# Altium integrated library Analog Devices Data Converters Analog-to-Digital Converters.IntLib: 2400 symbols (part 255 of 338)
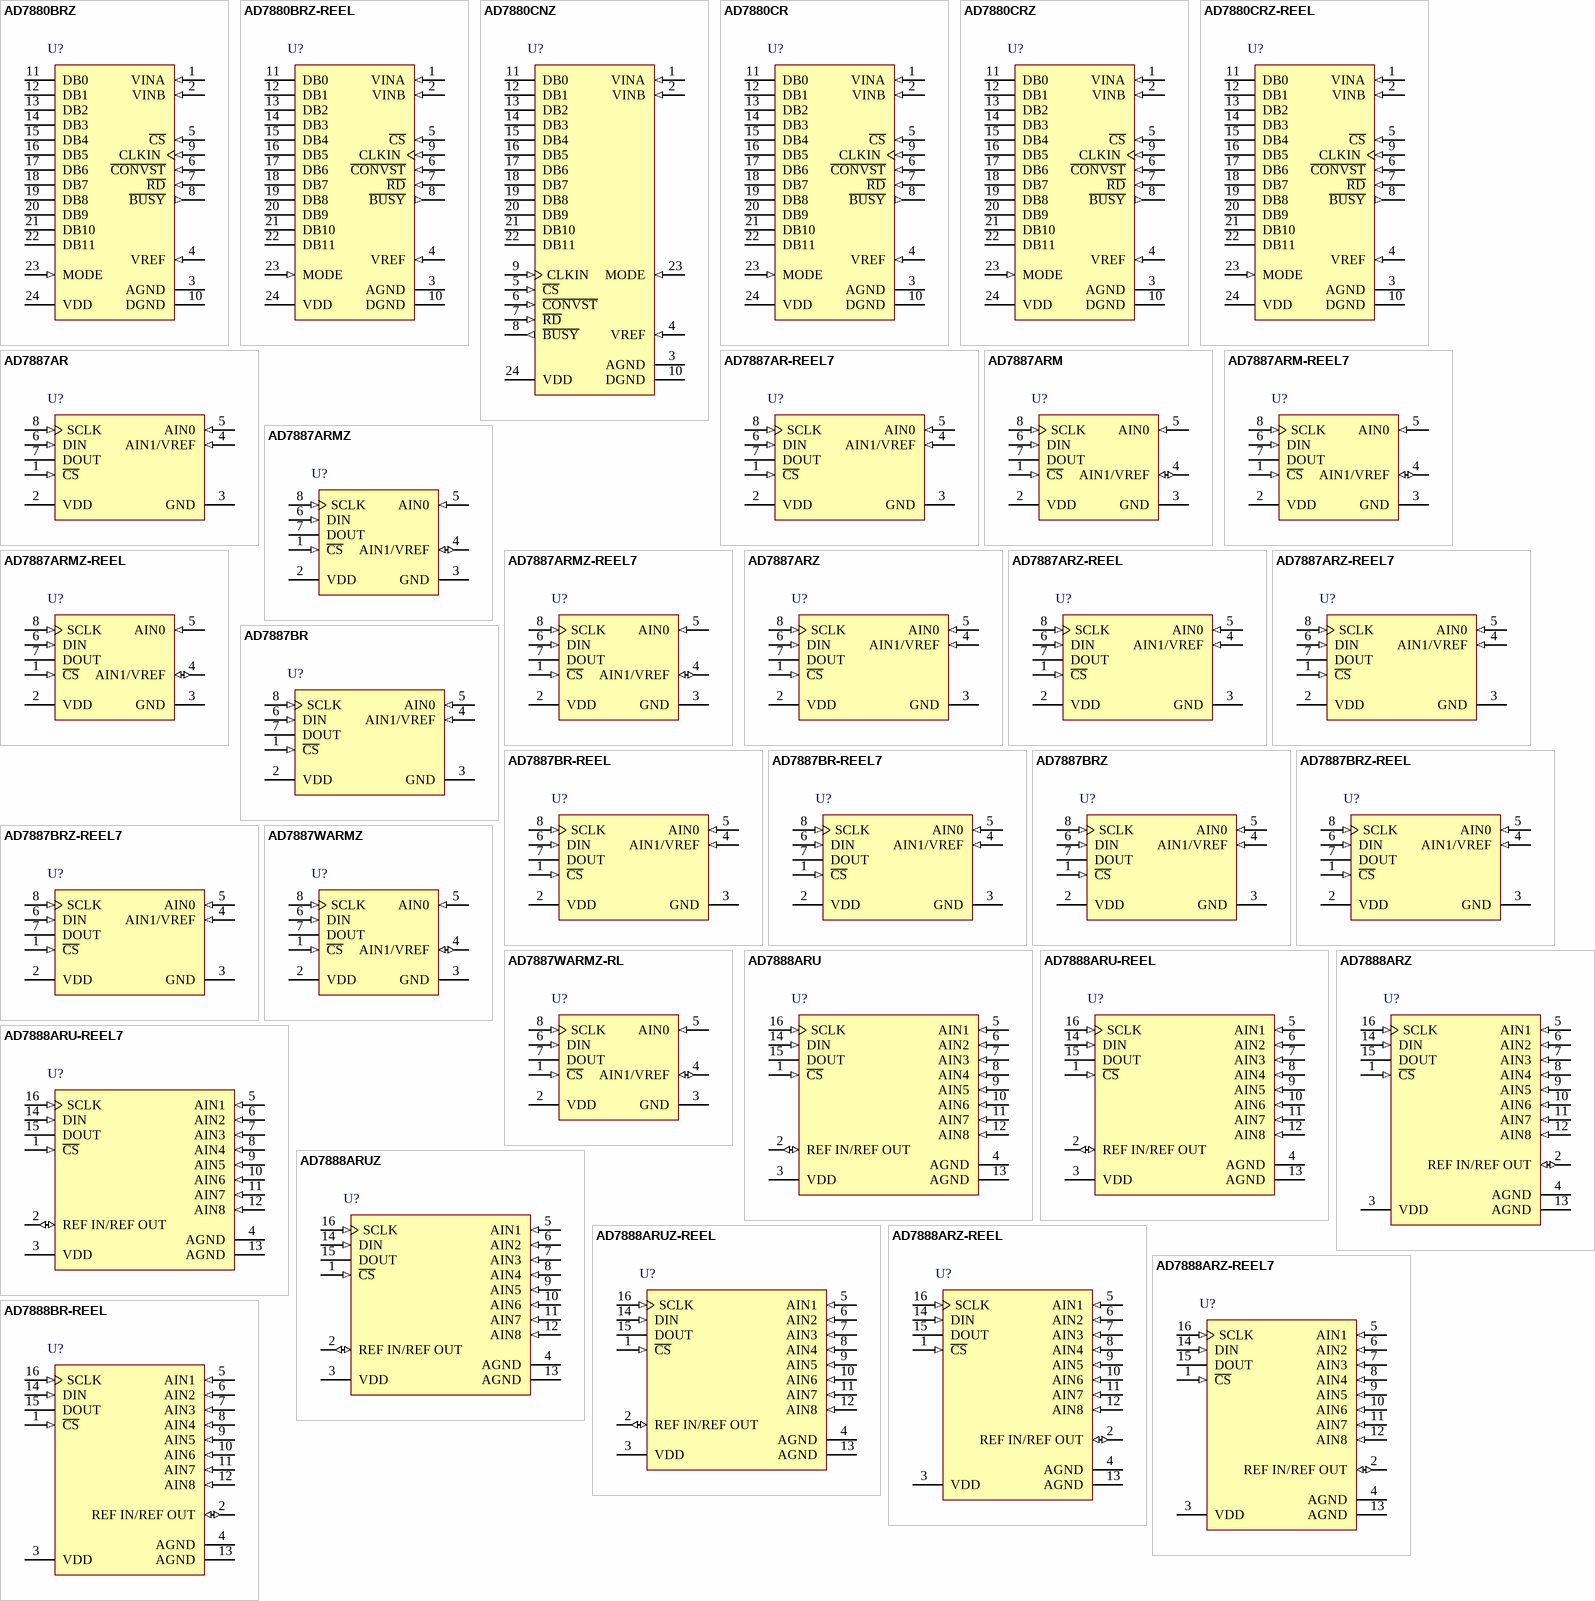
[diagram p293: symbols AD7880BRZ to AD7888BR-REEL]

## AD7880CRZ
designator U?
Single 12-Bit Sampling Low Power Analog-to-Digital Converter with Parallel Interface, LC2MOS, LC2MOS Single +5 V 66KSPS, 0 to +70 degC, RW-24, Pb-Free, Tube; Part Number: AD7880; Manufacturer: Analog Devices; Resolution (Bits): 12; Channels: 1; Throughput Rate (SPS): 66K; Interface: Par; DatasheetVersion: Rev.0; PackageVersion: 060706-A; PackageReference: RW-24; PackageDescription: 24-Lead Standard Small Outline Package [SOIC_W]; RoHS: Y; Packing: Tube; Mounting Technology: Surface Mount; Code_JEDEC: MS-013-AD; ComponentLink1Description: Manufacturer URL; ComponentLink1URL: http://www.analog.com/en/index.html; ComponentLink2Description: Datasheet; ComponentLink2URL: http://www.analog.com/static/imported-files/data_sheets/AD7880.pdf; ComponentLink3Description: Package Specification; ComponentLink3URL: http://www.analog.com/static/imported-files/packages/33665150946139RW_24.pdf; ComponentLink4Description: Product URL; ComponentLink4URL: http://www.analog.com/en/analog-to-digital-converters/ad-converters/ad7880/products/product.html
footprint RW-24_N (SOIC, 24-Leads, Body 15.4x7.5mm, Pitch 1.27mm, IPC Medium Density)
footprint RW-24_L (SOIC, 24-Leads, Body 15.4x7.5mm, Pitch 1.27mm, IPC High Density)
footprint RW-24_M (SOIC, 24-Leads, Body 15.4x7.5mm, Pitch 1.27mm, IPC Low Density)
pins: 1 VINA (in) "Analog Input.", 2 VINB (in) "Analog Input.", 3 AGND (power) "Analog Ground.", 4 VREF (in) "Voltage Reference Input. This is normally tied to VDD.", 5 ~{CS} (in) "Chip Select. Active Low Logic input. The device is selected when this input is active.", 6 ~{CONVST} (in) "Convert Start. A low to high transition on this input puts the track/hold into hold mode and starts conversion. This input is asynchronous to the CLKIN and is independent of C\S\ and R\D\.", 7 ~{RD} (in) "Read. Active Low Logic Input. This input is used in conjunction with C\S\ low to enable data outputs", 8 ~{BUSY} (out) "Active Low Logic Output. This status line indicates converter status. B\U\S\Y\ is low during conversion.", 9 CLKIN (in) "Clock Input. TTL-compatible logic input. Used as the clock source for the A/D converter. The mark/space ratio of the clock can vary from 40/60 to 60/40.", 10 DGND (power) "Digital Ground.", 11 DB0 (hiz) "Three-State Data Outputs. These become active when C\S\ and R\D\ are brought low.", 12 DB1 (hiz) "Three-State Data Outputs. These become active when C\S\ and R\D\ are brought low.", 13 DB2 (hiz) "Three-State Data Outputs. These become active when C\S\ and R\D\ are brought low.", 14 DB3 (hiz) "Three-State Data Outputs. These become active when C\S\ and R\D\ are brought low.", 15 DB4 (hiz) "Three-State Data Outputs. These become active when C\S\ and R\D\ are brought low.", 16 DB5 (hiz) "Three-State Data Outputs. These become active when C\S\ and R\D\ are brought low.", 17 DB6 (hiz) "Three-State Data Outputs. These become active when C\S\ and R\D\ are brought low.", 18 DB7 (hiz) "Three-State Data Outputs. These become active when C\S\ and R\D\ are brought low.", 19 DB8 (hiz) "Three-State Data Outputs. These become active when C\S\ and R\D\ are brought low.", 20 DB9 (hiz) "Three-State Data Outputs. These become active when C\S\ and R\D\ are brought low.", 21 DB10 (hiz) "Three-State Data Outputs. These become active when C\S\ and R\D\ are brought low.", 22 DB11 (hiz) "Three-State Data Outputs. These become active when C\S\ and R\D\ are brought low.", 23 MODE (in) "MODE Input. This input is used to put the device into the power save mode (MODE = 0 V). During normal operation, the MODE input will be a logic high (MODE = VDD).", 24 VDD (power) "Power Supply. This is nominally +5 V."

## AD7880CRZ-REEL
designator U?
Single 12-Bit Sampling Low Power Analog-to-Digital Converter with Parallel Interface, LC2MOS, LC2MOS Single +5 V 66KSPS, 0 to +70 degC, RW-24, Pb-Free, Reel; Part Number: AD7880; Manufacturer: Analog Devices; Resolution (Bits): 12; Channels: 1; Throughput Rate (SPS): 66K; Interface: Par; DatasheetVersion: Rev.0; PackageVersion: 060706-A; PackageReference: RW-24; PackageDescription: 24-Lead Standard Small Outline Package [SOIC_W]; RoHS: Y; Packing: Reel; Mounting Technology: Surface Mount; Code_JEDEC: MS-013-AD; ComponentLink1Description: Manufacturer URL; ComponentLink1URL: http://www.analog.com/en/index.html; ComponentLink2Description: Datasheet; ComponentLink2URL: http://www.analog.com/static/imported-files/data_sheets/AD7880.pdf; ComponentLink3Description: Package Specification; ComponentLink3URL: http://www.analog.com/static/imported-files/packages/33665150946139RW_24.pdf; ComponentLink4Description: Product URL; ComponentLink4URL: http://www.analog.com/en/analog-to-digital-converters/ad-converters/ad7880/products/product.html
footprint RW-24_N (SOIC, 24-Leads, Body 15.4x7.5mm, Pitch 1.27mm, IPC Medium Density)
footprint RW-24_L (SOIC, 24-Leads, Body 15.4x7.5mm, Pitch 1.27mm, IPC High Density)
footprint RW-24_M (SOIC, 24-Leads, Body 15.4x7.5mm, Pitch 1.27mm, IPC Low Density)
pins: 1 VINA (in) "Analog Input.", 2 VINB (in) "Analog Input.", 3 AGND (power) "Analog Ground.", 4 VREF (in) "Voltage Reference Input. This is normally tied to VDD.", 5 ~{CS} (in) "Chip Select. Active Low Logic input. The device is selected when this input is active.", 6 ~{CONVST} (in) "Convert Start. A low to high transition on this input puts the track/hold into hold mode and starts conversion. This input is asynchronous to the CLKIN and is independent of C\S\ and R\D\.", 7 ~{RD} (in) "Read. Active Low Logic Input. This input is used in conjunction with C\S\ low to enable data outputs", 8 ~{BUSY} (out) "Active Low Logic Output. This status line indicates converter status. B\U\S\Y\ is low during conversion.", 9 CLKIN (in) "Clock Input. TTL-compatible logic input. Used as the clock source for the A/D converter. The mark/space ratio of the clock can vary from 40/60 to 60/40.", 10 DGND (power) "Digital Ground.", 11 DB0 (hiz) "Three-State Data Outputs. These become active when C\S\ and R\D\ are brought low.", 12 DB1 (hiz) "Three-State Data Outputs. These become active when C\S\ and R\D\ are brought low.", 13 DB2 (hiz) "Three-State Data Outputs. These become active when C\S\ and R\D\ are brought low.", 14 DB3 (hiz) "Three-State Data Outputs. These become active when C\S\ and R\D\ are brought low.", 15 DB4 (hiz) "Three-State Data Outputs. These become active when C\S\ and R\D\ are brought low.", 16 DB5 (hiz) "Three-State Data Outputs. These become active when C\S\ and R\D\ are brought low.", 17 DB6 (hiz) "Three-State Data Outputs. These become active when C\S\ and R\D\ are brought low.", 18 DB7 (hiz) "Three-State Data Outputs. These become active when C\S\ and R\D\ are brought low.", 19 DB8 (hiz) "Three-State Data Outputs. These become active when C\S\ and R\D\ are brought low.", 20 DB9 (hiz) "Three-State Data Outputs. These become active when C\S\ and R\D\ are brought low.", 21 DB10 (hiz) "Three-State Data Outputs. These become active when C\S\ and R\D\ are brought low.", 22 DB11 (hiz) "Three-State Data Outputs. These become active when C\S\ and R\D\ are brought low.", 23 MODE (in) "MODE Input. This input is used to put the device into the power save mode (MODE = 0 V). During normal operation, the MODE input will be a logic high (MODE = VDD).", 24 VDD (power) "Power Supply. This is nominally +5 V."

## AD7887AR
designator U?
Dual 12-Bit Analog-to-Digital Converter with Serial, SPI Interface, Micropower, 2.7 V to 5.25 V, 125KSPS, -40 to +125 degC, R-8, Tube; Part Number: AD7887; Manufacturer: Analog Devices; Resolution (Bits): 12; Channels: 2; Throughput Rate (SPS): 125K; Interface: Ser, SPI; Automotive Qualified: Yes; DatasheetVersion: Rev.D; PackageVersion: 060506-A; PackageReference: R-8; PackageDescription: 8-Lead Standard Small Outline Package [SOIC_N] Narrow Body; RoHS: N; Packing: Tube; Mounting Technology: Surface Mount; Code_JEDEC: MS-012-AA; Code_IPC: SOIC127P600-8; ComponentLink1Description: Manufacturer URL; ComponentLink1URL: http://www.analog.com/en/index.html; ComponentLink2Description: Datasheet; ComponentLink2URL: http://www.analog.com/static/imported-files/data_sheets/AD7887.pdf; ComponentLink3Description: Package Specification; ComponentLink3URL: http://www.analog.com/static/imported-files/packages/PKG_PDF/SOIC_Narrow%20(R)/R_8.pdf; ComponentLink4Description: Product URL; ComponentLink4URL: http://www.analog.com/en/analog-to-digital-converters/ad-converters/ad7887/products/product.html
footprint R-8_N (SOIC, 8-Leads, Body 4.9x3.9mm, Pitch 1.27mm, IPC Medium Density)
footprint R-8_L (SOIC, 8-Leads, Body 4.9x3.9mm, Pitch 1.27mm, IPC High Density)
footprint R-8_M (SOIC, 8-Leads, Body 4.9x3.9mm, Pitch 1.27mm, IPC Low Density)
pins: 1 ~{CS} (in) "Chip Select. Active low logic input. This input provides the dual function of initiating conversions on the AD7887 and also frames the serial data transfer. When the AD7887 operates in its default mode, the C\S\ pin also (See Datasheet)", 2 VDD (power) "Power Supply Input. The VDD range for the AD7887 is from 2.7 V to 5.25 V. When the AD7887 is configured for two-channel operation, this pin also provides the reference source for the part.", 3 GND (power) "Ground Pin. This pin is the ground reference point for all circuitry on the AD7887. In systems with separate AGND and DGND planes, these planes should be tied together as close as possible to this GND pin. Where this is not (See Datasheet)", 4 AIN1/VREF (in) "Analog Input 1/Voltage Reference Input. In single-channel mode, this pin becomes the reference input/output. In this case, the user can either access the internal 2.5 V reference or overdrive the internal reference with the (See Datasheet)", 5 AIN0 (in) "Analog Input 0. In single-channel mode, this is the analog input and the input voltage range is 0 to VREF. In dual-channel mode, it has an analog input range of 0 to VDD.", 6 DIN (in) "Data In. Logic Input. Data to be written to the AD7887’s control register is provided on this input and clocked into the register on the rising edge of SCLK (see the Control Register section). The AD7887 can be operated as a (See Datasheet)", 7 DOUT (hiz) "Data Out. Logic output. The conversion result from the AD7887 is provided on this output as a serial data stream. The bits are clocked out on the falling edge of the SCLK input. The data stream consists of four leading zeros (See Datasheet)", 8 SCLK (in) "Serial Clock. Logic input. SCLK provides the serial clock for accessing data from the part and writing serial data to the control register. This clock input is also used as the clock source for the AD7887’s conversion (See Datasheet)"

## AD7887AR-REEL7
designator U?
Dual 12-Bit Analog-to-Digital Converter with Serial, SPI Interface, Micropower, 2.7 V to 5.25 V, 125KSPS, -40 to +125 degC, R-8, Reel; Part Number: AD7887; Manufacturer: Analog Devices; Resolution (Bits): 12; Channels: 2; Throughput Rate (SPS): 125K; Interface: Ser, SPI; Automotive Qualified: Yes; DatasheetVersion: Rev.D; PackageVersion: 060506-A; PackageReference: R-8; PackageDescription: 8-Lead Standard Small Outline Package [SOIC_N] Narrow Body; RoHS: N; Packing: Reel; Mounting Technology: Surface Mount; Code_JEDEC: MS-012-AA; Code_IPC: SOIC127P600-8; ComponentLink1Description: Manufacturer URL; ComponentLink1URL: http://www.analog.com/en/index.html; ComponentLink2Description: Datasheet; ComponentLink2URL: http://www.analog.com/static/imported-files/data_sheets/AD7887.pdf; ComponentLink3Description: Package Specification; ComponentLink3URL: http://www.analog.com/static/imported-files/packages/PKG_PDF/SOIC_Narrow%20(R)/R_8.pdf; ComponentLink4Description: Product URL; ComponentLink4URL: http://www.analog.com/en/analog-to-digital-converters/ad-converters/ad7887/products/product.html
footprint R-8_N (SOIC, 8-Leads, Body 4.9x3.9mm, Pitch 1.27mm, IPC Medium Density)
footprint R-8_L (SOIC, 8-Leads, Body 4.9x3.9mm, Pitch 1.27mm, IPC High Density)
footprint R-8_M (SOIC, 8-Leads, Body 4.9x3.9mm, Pitch 1.27mm, IPC Low Density)
pins: 1 ~{CS} (in) "Chip Select. Active low logic input. This input provides the dual function of initiating conversions on the AD7887 and also frames the serial data transfer. When the AD7887 operates in its default mode, the C\S\ pin also (See Datasheet)", 2 VDD (power) "Power Supply Input. The VDD range for the AD7887 is from 2.7 V to 5.25 V. When the AD7887 is configured for two-channel operation, this pin also provides the reference source for the part.", 3 GND (power) "Ground Pin. This pin is the ground reference point for all circuitry on the AD7887. In systems with separate AGND and DGND planes, these planes should be tied together as close as possible to this GND pin. Where this is not (See Datasheet)", 4 AIN1/VREF (in) "Analog Input 1/Voltage Reference Input. In single-channel mode, this pin becomes the reference input/output. In this case, the user can either access the internal 2.5 V reference or overdrive the internal reference with the (See Datasheet)", 5 AIN0 (in) "Analog Input 0. In single-channel mode, this is the analog input and the input voltage range is 0 to VREF. In dual-channel mode, it has an analog input range of 0 to VDD.", 6 DIN (in) "Data In. Logic Input. Data to be written to the AD7887’s control register is provided on this input and clocked into the register on the rising edge of SCLK (see the Control Register section). The AD7887 can be operated as a (See Datasheet)", 7 DOUT (hiz) "Data Out. Logic output. The conversion result from the AD7887 is provided on this output as a serial data stream. The bits are clocked out on the falling edge of the SCLK input. The data stream consists of four leading zeros (See Datasheet)", 8 SCLK (in) "Serial Clock. Logic input. SCLK provides the serial clock for accessing data from the part and writing serial data to the control register. This clock input is also used as the clock source for the AD7887’s conversion (See Datasheet)"

## AD7887ARM
designator U?
Dual 12-Bit Analog-to-Digital Converter with Serial, SPI Interface, Micropower, 2.7 V to 5.25 V, 125KSPS, -40 to +125 degC, RM-8, Tube; Part Number: AD7887; Manufacturer: Analog Devices; Resolution (Bits): 12; Channels: 2; Throughput Rate (SPS): 125K; Interface: Ser, SPI; Automotive Qualified: Yes; DatasheetVersion: Rev.D; PackageVersion: Aug-2005; PackageReference: RM-8; PackageDescription: 8-Lead Mini Small Outline Package [MSOP]; RoHS: N; Packing: Tube; Mounting Technology: Surface Mount; Code_JEDEC: MO-187-AA; ComponentLink1Description: Manufacturer URL; ComponentLink1URL: http://www.analog.com/en/index.html; ComponentLink2Description: Datasheet; ComponentLink2URL: http://www.analog.com/static/imported-files/data_sheets/AD7887.pdf; ComponentLink3Description: Package Specification; ComponentLink3URL: http://www.analog.com/static/imported-files/packages/PKG_PDF/MSOP%28RM%29/RM_8.pdf; ComponentLink4Description: Product URL; ComponentLink4URL: http://www.analog.com/en/analog-to-digital-converters/ad-converters/ad7887/products/product.html
footprint RM-8_N (TSOP, 8-Leads, Body 3x3mm, Pitch 0.65mm, IPC Medium Density)
footprint RM-8_L (TSOP, 8-Leads, Body 3x3mm, Pitch 0.65mm, IPC High Density)
footprint RM-8_M (TSOP, 8-Leads, Body 3x3mm, Pitch 0.65mm, IPC Low Density)
pins: 1 ~{CS} (in) "Chip Select. Active low logic input. This input provides the dual function of initiating conversions on the AD7887 and also frames the serial data transfer. When the AD7887 operates in its default mode, the C\S\ pin also (See Datasheet)", 2 VDD (power) "Power Supply Input. The VDD range for the AD7887 is from 2.7 V to 5.25 V. When the AD7887 is configured for two-channel operation, this pin also provides the reference source for the part.", 3 GND (power) "Ground Pin. This pin is the ground reference point for all circuitry on the AD7887. In systems with separate AGND and DGND planes, these planes should be tied together as close as possible to this GND pin. Where this is not (See Datasheet)", 4 AIN1/VREF (io) "Analog Input 1/Voltage Reference Input. In single-channel mode, this pin becomes the reference input/output. In this case, the user can either access the internal 2.5 V reference or overdrive the internal reference with the (See Datasheet)", 5 AIN0 (in) "Analog Input 0. In single-channel mode, this is the analog input and the input voltage range is 0 to VREF. In dual-channel mode, it has an analog input range of 0 to VDD.", 6 DIN (in) "Data In. Logic Input. Data to be written to the AD7887control register is provided on this input and clocked into the register on the rising edge of SCLK (see the Control Register section). The AD7887 can be operated as a (See Datasheet)", 7 DOUT (hiz) "Data Out. Logic output. The conversion result from the AD7887 is provided on this output as a serial data stream. The bits are clocked out on the falling edge of the SCLK input. The data stream consists of four leading zeros (See Datasheet)", 8 SCLK (in) "Serial Clock. Logic input. SCLK provides the serial clock for accessing data from the part and writing serial data to the control register. This clock input is also used as the clock source for the AD7887 is conversion (See Datasheet)"

## AD7887ARM-REEL7
designator U?
Dual 12-Bit Analog-to-Digital Converter with Serial, SPI Interface, Micropower, 2.7 V to 5.25 V, 125KSPS, -40 to +125 degC, RM-8, Reel; Part Number: AD7887; Manufacturer: Analog Devices; Resolution (Bits): 12; Channels: 2; Throughput Rate (SPS): 125K; Interface: Ser, SPI; Automotive Qualified: Yes; DatasheetVersion: Rev.D; PackageVersion: Aug-2005; PackageReference: RM-8; PackageDescription: 8-Lead Mini Small Outline Package [MSOP]; RoHS: N; Packing: Reel; Mounting Technology: Surface Mount; Code_JEDEC: MO-187-AA; ComponentLink1Description: Manufacturer URL; ComponentLink1URL: http://www.analog.com/en/index.html; ComponentLink2Description: Datasheet; ComponentLink2URL: http://www.analog.com/static/imported-files/data_sheets/AD7887.pdf; ComponentLink3Description: Package Specification; ComponentLink3URL: http://www.analog.com/static/imported-files/packages/PKG_PDF/MSOP%28RM%29/RM_8.pdf; ComponentLink4Description: Product URL; ComponentLink4URL: http://www.analog.com/en/analog-to-digital-converters/ad-converters/ad7887/products/product.html
footprint RM-8_N (TSOP, 8-Leads, Body 3x3mm, Pitch 0.65mm, IPC Medium Density)
footprint RM-8_L (TSOP, 8-Leads, Body 3x3mm, Pitch 0.65mm, IPC High Density)
footprint RM-8_M (TSOP, 8-Leads, Body 3x3mm, Pitch 0.65mm, IPC Low Density)
pins: 1 ~{CS} (in) "Chip Select. Active low logic input. This input provides the dual function of initiating conversions on the AD7887 and also frames the serial data transfer. When the AD7887 operates in its default mode, the C\S\ pin also (See Datasheet)", 2 VDD (power) "Power Supply Input. The VDD range for the AD7887 is from 2.7 V to 5.25 V. When the AD7887 is configured for two-channel operation, this pin also provides the reference source for the part.", 3 GND (power) "Ground Pin. This pin is the ground reference point for all circuitry on the AD7887. In systems with separate AGND and DGND planes, these planes should be tied together as close as possible to this GND pin. Where this is not (See Datasheet)", 4 AIN1/VREF (io) "Analog Input 1/Voltage Reference Input. In single-channel mode, this pin becomes the reference input/output. In this case, the user can either access the internal 2.5 V reference or overdrive the internal reference with the (See Datasheet)", 5 AIN0 (in) "Analog Input 0. In single-channel mode, this is the analog input and the input voltage range is 0 to VREF. In dual-channel mode, it has an analog input range of 0 to VDD.", 6 DIN (in) "Data In. Logic Input. Data to be written to the AD7887control register is provided on this input and clocked into the register on the rising edge of SCLK (see the Control Register section). The AD7887 can be operated as a (See Datasheet)", 7 DOUT (hiz) "Data Out. Logic output. The conversion result from the AD7887 is provided on this output as a serial data stream. The bits are clocked out on the falling edge of the SCLK input. The data stream consists of four leading zeros (See Datasheet)", 8 SCLK (in) "Serial Clock. Logic input. SCLK provides the serial clock for accessing data from the part and writing serial data to the control register. This clock input is also used as the clock source for the AD7887 is conversion (See Datasheet)"

## AD7887ARMZ
designator U?
Dual 12-Bit Analog-to-Digital Converter with Serial, SPI Interface, Micropower, 2.7 V to 5.25 V, 125KSPS, -40 to +125 degC, RM-8, Pb-Free, Tube; Part Number: AD7887; Manufacturer: Analog Devices; Resolution (Bits): 12; Channels: 2; Throughput Rate (SPS): 125K; Interface: Ser, SPI; Automotive Qualified: Yes; DatasheetVersion: Rev.D; PackageVersion: Aug-2005; PackageReference: RM-8; PackageDescription: 8-Lead Mini Small Outline Package [MSOP]; RoHS: Y; Packing: Tube; Mounting Technology: Surface Mount; Code_JEDEC: MO-187-AA; ComponentLink1Description: Manufacturer URL; ComponentLink1URL: http://www.analog.com/en/index.html; ComponentLink2Description: Datasheet; ComponentLink2URL: http://www.analog.com/static/imported-files/data_sheets/AD7887.pdf; ComponentLink3Description: Package Specification; ComponentLink3URL: http://www.analog.com/static/imported-files/packages/PKG_PDF/MSOP%28RM%29/RM_8.pdf; ComponentLink4Description: Product URL; ComponentLink4URL: http://www.analog.com/en/analog-to-digital-converters/ad-converters/ad7887/products/product.html
footprint RM-8_N (TSOP, 8-Leads, Body 3x3mm, Pitch 0.65mm, IPC Medium Density)
footprint RM-8_L (TSOP, 8-Leads, Body 3x3mm, Pitch 0.65mm, IPC High Density)
footprint RM-8_M (TSOP, 8-Leads, Body 3x3mm, Pitch 0.65mm, IPC Low Density)
pins: 1 ~{CS} (in) "Chip Select. Active low logic input. This input provides the dual function of initiating conversions on the AD7887 and also frames the serial data transfer. When the AD7887 operates in its default mode, the C\S\ pin also (See Datasheet)", 2 VDD (power) "Power Supply Input. The VDD range for the AD7887 is from 2.7 V to 5.25 V. When the AD7887 is configured for two-channel operation, this pin also provides the reference source for the part.", 3 GND (power) "Ground Pin. This pin is the ground reference point for all circuitry on the AD7887. In systems with separate AGND and DGND planes, these planes should be tied together as close as possible to this GND pin. Where this is not (See Datasheet)", 4 AIN1/VREF (io) "Analog Input 1/Voltage Reference Input. In single-channel mode, this pin becomes the reference input/output. In this case, the user can either access the internal 2.5 V reference or overdrive the internal reference with the (See Datasheet)", 5 AIN0 (in) "Analog Input 0. In single-channel mode, this is the analog input and the input voltage range is 0 to VREF. In dual-channel mode, it has an analog input range of 0 to VDD.", 6 DIN (in) "Data In. Logic Input. Data to be written to the AD7887control register is provided on this input and clocked into the register on the rising edge of SCLK (see the Control Register section). The AD7887 can be operated as a (See Datasheet)", 7 DOUT (hiz) "Data Out. Logic output. The conversion result from the AD7887 is provided on this output as a serial data stream. The bits are clocked out on the falling edge of the SCLK input. The data stream consists of four leading zeros (See Datasheet)", 8 SCLK (in) "Serial Clock. Logic input. SCLK provides the serial clock for accessing data from the part and writing serial data to the control register. This clock input is also used as the clock source for the AD7887 is conversion (See Datasheet)"

## AD7887ARMZ-REEL
designator U?
Dual 12-Bit Analog-to-Digital Converter with Serial, SPI Interface, Micropower, 2.7 V to 5.25 V, 125KSPS, -40 to +125 degC, RM-8, Pb-Free, Reel; Part Number: AD7887; Manufacturer: Analog Devices; Resolution (Bits): 12; Channels: 2; Throughput Rate (SPS): 125K; Interface: Ser, SPI; Automotive Qualified: Yes; DatasheetVersion: Rev.D; PackageVersion: Aug-2005; PackageReference: RM-8; PackageDescription: 8-Lead Mini Small Outline Package [MSOP]; RoHS: Y; Packing: Reel; Mounting Technology: Surface Mount; Code_JEDEC: MO-187-AA; ComponentLink1Description: Manufacturer URL; ComponentLink1URL: http://www.analog.com/en/index.html; ComponentLink2Description: Datasheet; ComponentLink2URL: http://www.analog.com/static/imported-files/data_sheets/AD7887.pdf; ComponentLink3Description: Package Specification; ComponentLink3URL: http://www.analog.com/static/imported-files/packages/PKG_PDF/MSOP%28RM%29/RM_8.pdf; ComponentLink4Description: Product URL; ComponentLink4URL: http://www.analog.com/en/analog-to-digital-converters/ad-converters/ad7887/products/product.html
footprint RM-8_N (TSOP, 8-Leads, Body 3x3mm, Pitch 0.65mm, IPC Medium Density)
footprint RM-8_L (TSOP, 8-Leads, Body 3x3mm, Pitch 0.65mm, IPC High Density)
footprint RM-8_M (TSOP, 8-Leads, Body 3x3mm, Pitch 0.65mm, IPC Low Density)
pins: 1 ~{CS} (in) "Chip Select. Active low logic input. This input provides the dual function of initiating conversions on the AD7887 and also frames the serial data transfer. When the AD7887 operates in its default mode, the C\S\ pin also (See Datasheet)", 2 VDD (power) "Power Supply Input. The VDD range for the AD7887 is from 2.7 V to 5.25 V. When the AD7887 is configured for two-channel operation, this pin also provides the reference source for the part.", 3 GND (power) "Ground Pin. This pin is the ground reference point for all circuitry on the AD7887. In systems with separate AGND and DGND planes, these planes should be tied together as close as possible to this GND pin. Where this is not (See Datasheet)", 4 AIN1/VREF (io) "Analog Input 1/Voltage Reference Input. In single-channel mode, this pin becomes the reference input/output. In this case, the user can either access the internal 2.5 V reference or overdrive the internal reference with the (See Datasheet)", 5 AIN0 (in) "Analog Input 0. In single-channel mode, this is the analog input and the input voltage range is 0 to VREF. In dual-channel mode, it has an analog input range of 0 to VDD.", 6 DIN (in) "Data In. Logic Input. Data to be written to the AD7887control register is provided on this input and clocked into the register on the rising edge of SCLK (see the Control Register section). The AD7887 can be operated as a (See Datasheet)", 7 DOUT (hiz) "Data Out. Logic output. The conversion result from the AD7887 is provided on this output as a serial data stream. The bits are clocked out on the falling edge of the SCLK input. The data stream consists of four leading zeros (See Datasheet)", 8 SCLK (in) "Serial Clock. Logic input. SCLK provides the serial clock for accessing data from the part and writing serial data to the control register. This clock input is also used as the clock source for the AD7887 is conversion (See Datasheet)"

## AD7887ARMZ-REEL7
designator U?
Dual 12-Bit Analog-to-Digital Converter with Serial, SPI Interface, Micropower, 2.7 V to 5.25 V, 125KSPS, -40 to +125 degC, RM-8, Pb-Free, Reel; Part Number: AD7887; Manufacturer: Analog Devices; Resolution (Bits): 12; Channels: 2; Throughput Rate (SPS): 125K; Interface: Ser, SPI; Automotive Qualified: Yes; DatasheetVersion: Rev.D; PackageVersion: Aug-2005; PackageReference: RM-8; PackageDescription: 8-Lead Mini Small Outline Package [MSOP]; RoHS: Y; Packing: Reel; Mounting Technology: Surface Mount; Code_JEDEC: MO-187-AA; ComponentLink1Description: Manufacturer URL; ComponentLink1URL: http://www.analog.com/en/index.html; ComponentLink2Description: Datasheet; ComponentLink2URL: http://www.analog.com/static/imported-files/data_sheets/AD7887.pdf; ComponentLink3Description: Package Specification; ComponentLink3URL: http://www.analog.com/static/imported-files/packages/PKG_PDF/MSOP%28RM%29/RM_8.pdf; ComponentLink4Description: Product URL; ComponentLink4URL: http://www.analog.com/en/analog-to-digital-converters/ad-converters/ad7887/products/product.html
footprint RM-8_N (TSOP, 8-Leads, Body 3x3mm, Pitch 0.65mm, IPC Medium Density)
footprint RM-8_L (TSOP, 8-Leads, Body 3x3mm, Pitch 0.65mm, IPC High Density)
footprint RM-8_M (TSOP, 8-Leads, Body 3x3mm, Pitch 0.65mm, IPC Low Density)
pins: 1 ~{CS} (in) "Chip Select. Active low logic input. This input provides the dual function of initiating conversions on the AD7887 and also frames the serial data transfer. When the AD7887 operates in its default mode, the C\S\ pin also (See Datasheet)", 2 VDD (power) "Power Supply Input. The VDD range for the AD7887 is from 2.7 V to 5.25 V. When the AD7887 is configured for two-channel operation, this pin also provides the reference source for the part.", 3 GND (power) "Ground Pin. This pin is the ground reference point for all circuitry on the AD7887. In systems with separate AGND and DGND planes, these planes should be tied together as close as possible to this GND pin. Where this is not (See Datasheet)", 4 AIN1/VREF (io) "Analog Input 1/Voltage Reference Input. In single-channel mode, this pin becomes the reference input/output. In this case, the user can either access the internal 2.5 V reference or overdrive the internal reference with the (See Datasheet)", 5 AIN0 (in) "Analog Input 0. In single-channel mode, this is the analog input and the input voltage range is 0 to VREF. In dual-channel mode, it has an analog input range of 0 to VDD.", 6 DIN (in) "Data In. Logic Input. Data to be written to the AD7887control register is provided on this input and clocked into the register on the rising edge of SCLK (see the Control Register section). The AD7887 can be operated as a (See Datasheet)", 7 DOUT (hiz) "Data Out. Logic output. The conversion result from the AD7887 is provided on this output as a serial data stream. The bits are clocked out on the falling edge of the SCLK input. The data stream consists of four leading zeros (See Datasheet)", 8 SCLK (in) "Serial Clock. Logic input. SCLK provides the serial clock for accessing data from the part and writing serial data to the control register. This clock input is also used as the clock source for the AD7887 is conversion (See Datasheet)"

## AD7887ARZ
designator U?
Dual 12-Bit Analog-to-Digital Converter with Serial, SPI Interface, Micropower, 2.7 V to 5.25 V, 125KSPS, -40 to +125 degC, R-8, Pb-Free, Tube; Part Number: AD7887; Manufacturer: Analog Devices; Resolution (Bits): 12; Channels: 2; Throughput Rate (SPS): 125K; Interface: Ser, SPI; Automotive Qualified: Yes; DatasheetVersion: Rev.D; PackageVersion: 060506-A; PackageReference: R-8; PackageDescription: 8-Lead Standard Small Outline Package [SOIC_N] Narrow Body; RoHS: Y; Packing: Tube; Mounting Technology: Surface Mount; Code_JEDEC: MS-012-AA; Code_IPC: SOIC127P600-8; ComponentLink1Description: Manufacturer URL; ComponentLink1URL: http://www.analog.com/en/index.html; ComponentLink2Description: Datasheet; ComponentLink2URL: http://www.analog.com/static/imported-files/data_sheets/AD7887.pdf; ComponentLink3Description: Package Specification; ComponentLink3URL: http://www.analog.com/static/imported-files/packages/PKG_PDF/SOIC_Narrow%20(R)/R_8.pdf; ComponentLink4Description: Product URL; ComponentLink4URL: http://www.analog.com/en/analog-to-digital-converters/ad-converters/ad7887/products/product.html
footprint R-8_N (SOIC, 8-Leads, Body 4.9x3.9mm, Pitch 1.27mm, IPC Medium Density)
footprint R-8_L (SOIC, 8-Leads, Body 4.9x3.9mm, Pitch 1.27mm, IPC High Density)
footprint R-8_M (SOIC, 8-Leads, Body 4.9x3.9mm, Pitch 1.27mm, IPC Low Density)
pins: 1 ~{CS} (in) "Chip Select. Active low logic input. This input provides the dual function of initiating conversions on the AD7887 and also frames the serial data transfer. When the AD7887 operates in its default mode, the C\S\ pin also (See Datasheet)", 2 VDD (power) "Power Supply Input. The VDD range for the AD7887 is from 2.7 V to 5.25 V. When the AD7887 is configured for two-channel operation, this pin also provides the reference source for the part.", 3 GND (power) "Ground Pin. This pin is the ground reference point for all circuitry on the AD7887. In systems with separate AGND and DGND planes, these planes should be tied together as close as possible to this GND pin. Where this is not (See Datasheet)", 4 AIN1/VREF (in) "Analog Input 1/Voltage Reference Input. In single-channel mode, this pin becomes the reference input/output. In this case, the user can either access the internal 2.5 V reference or overdrive the internal reference with the (See Datasheet)", 5 AIN0 (in) "Analog Input 0. In single-channel mode, this is the analog input and the input voltage range is 0 to VREF. In dual-channel mode, it has an analog input range of 0 to VDD.", 6 DIN (in) "Data In. Logic Input. Data to be written to the AD7887’s control register is provided on this input and clocked into the register on the rising edge of SCLK (see the Control Register section). The AD7887 can be operated as a (See Datasheet)", 7 DOUT (hiz) "Data Out. Logic output. The conversion result from the AD7887 is provided on this output as a serial data stream. The bits are clocked out on the falling edge of the SCLK input. The data stream consists of four leading zeros (See Datasheet)", 8 SCLK (in) "Serial Clock. Logic input. SCLK provides the serial clock for accessing data from the part and writing serial data to the control register. This clock input is also used as the clock source for the AD7887’s conversion (See Datasheet)"

## AD7887ARZ-REEL
designator U?
Dual 12-Bit Analog-to-Digital Converter with Serial, SPI Interface, Micropower, 2.7 V to 5.25 V, 125KSPS, -40 to +125 degC, R-8, Pb-Free, Reel; Part Number: AD7887; Manufacturer: Analog Devices; Resolution (Bits): 12; Channels: 2; Throughput Rate (SPS): 125K; Interface: Ser, SPI; Automotive Qualified: Yes; DatasheetVersion: Rev.D; PackageVersion: 060506-A; PackageReference: R-8; PackageDescription: 8-Lead Standard Small Outline Package [SOIC_N] Narrow Body; RoHS: Y; Packing: Reel; Mounting Technology: Surface Mount; Code_JEDEC: MS-012-AA; Code_IPC: SOIC127P600-8; ComponentLink1Description: Manufacturer URL; ComponentLink1URL: http://www.analog.com/en/index.html; ComponentLink2Description: Datasheet; ComponentLink2URL: http://www.analog.com/static/imported-files/data_sheets/AD7887.pdf; ComponentLink3Description: Package Specification; ComponentLink3URL: http://www.analog.com/static/imported-files/packages/PKG_PDF/SOIC_Narrow%20(R)/R_8.pdf; ComponentLink4Description: Product URL; ComponentLink4URL: http://www.analog.com/en/analog-to-digital-converters/ad-converters/ad7887/products/product.html
footprint R-8_N (SOIC, 8-Leads, Body 4.9x3.9mm, Pitch 1.27mm, IPC Medium Density)
footprint R-8_L (SOIC, 8-Leads, Body 4.9x3.9mm, Pitch 1.27mm, IPC High Density)
footprint R-8_M (SOIC, 8-Leads, Body 4.9x3.9mm, Pitch 1.27mm, IPC Low Density)
pins: 1 ~{CS} (in) "Chip Select. Active low logic input. This input provides the dual function of initiating conversions on the AD7887 and also frames the serial data transfer. When the AD7887 operates in its default mode, the C\S\ pin also (See Datasheet)", 2 VDD (power) "Power Supply Input. The VDD range for the AD7887 is from 2.7 V to 5.25 V. When the AD7887 is configured for two-channel operation, this pin also provides the reference source for the part.", 3 GND (power) "Ground Pin. This pin is the ground reference point for all circuitry on the AD7887. In systems with separate AGND and DGND planes, these planes should be tied together as close as possible to this GND pin. Where this is not (See Datasheet)", 4 AIN1/VREF (in) "Analog Input 1/Voltage Reference Input. In single-channel mode, this pin becomes the reference input/output. In this case, the user can either access the internal 2.5 V reference or overdrive the internal reference with the (See Datasheet)", 5 AIN0 (in) "Analog Input 0. In single-channel mode, this is the analog input and the input voltage range is 0 to VREF. In dual-channel mode, it has an analog input range of 0 to VDD.", 6 DIN (in) "Data In. Logic Input. Data to be written to the AD7887’s control register is provided on this input and clocked into the register on the rising edge of SCLK (see the Control Register section). The AD7887 can be operated as a (See Datasheet)", 7 DOUT (hiz) "Data Out. Logic output. The conversion result from the AD7887 is provided on this output as a serial data stream. The bits are clocked out on the falling edge of the SCLK input. The data stream consists of four leading zeros (See Datasheet)", 8 SCLK (in) "Serial Clock. Logic input. SCLK provides the serial clock for accessing data from the part and writing serial data to the control register. This clock input is also used as the clock source for the AD7887’s conversion (See Datasheet)"

## AD7887ARZ-REEL7
designator U?
Dual 12-Bit Analog-to-Digital Converter with Serial, SPI Interface, Micropower, 2.7 V to 5.25 V, 125KSPS, -40 to +125 degC, R-8, Pb-Free, Reel; Part Number: AD7887; Manufacturer: Analog Devices; Resolution (Bits): 12; Channels: 2; Throughput Rate (SPS): 125K; Interface: Ser, SPI; Automotive Qualified: Yes; DatasheetVersion: Rev.D; PackageVersion: 060506-A; PackageReference: R-8; PackageDescription: 8-Lead Standard Small Outline Package [SOIC_N] Narrow Body; RoHS: Y; Packing: Reel; Mounting Technology: Surface Mount; Code_JEDEC: MS-012-AA; Code_IPC: SOIC127P600-8; ComponentLink1Description: Manufacturer URL; ComponentLink1URL: http://www.analog.com/en/index.html; ComponentLink2Description: Datasheet; ComponentLink2URL: http://www.analog.com/static/imported-files/data_sheets/AD7887.pdf; ComponentLink3Description: Package Specification; ComponentLink3URL: http://www.analog.com/static/imported-files/packages/PKG_PDF/SOIC_Narrow%20(R)/R_8.pdf; ComponentLink4Description: Product URL; ComponentLink4URL: http://www.analog.com/en/analog-to-digital-converters/ad-converters/ad7887/products/product.html
footprint R-8_N (SOIC, 8-Leads, Body 4.9x3.9mm, Pitch 1.27mm, IPC Medium Density)
footprint R-8_L (SOIC, 8-Leads, Body 4.9x3.9mm, Pitch 1.27mm, IPC High Density)
footprint R-8_M (SOIC, 8-Leads, Body 4.9x3.9mm, Pitch 1.27mm, IPC Low Density)
pins: 1 ~{CS} (in) "Chip Select. Active low logic input. This input provides the dual function of initiating conversions on the AD7887 and also frames the serial data transfer. When the AD7887 operates in its default mode, the C\S\ pin also (See Datasheet)", 2 VDD (power) "Power Supply Input. The VDD range for the AD7887 is from 2.7 V to 5.25 V. When the AD7887 is configured for two-channel operation, this pin also provides the reference source for the part.", 3 GND (power) "Ground Pin. This pin is the ground reference point for all circuitry on the AD7887. In systems with separate AGND and DGND planes, these planes should be tied together as close as possible to this GND pin. Where this is not (See Datasheet)", 4 AIN1/VREF (in) "Analog Input 1/Voltage Reference Input. In single-channel mode, this pin becomes the reference input/output. In this case, the user can either access the internal 2.5 V reference or overdrive the internal reference with the (See Datasheet)", 5 AIN0 (in) "Analog Input 0. In single-channel mode, this is the analog input and the input voltage range is 0 to VREF. In dual-channel mode, it has an analog input range of 0 to VDD.", 6 DIN (in) "Data In. Logic Input. Data to be written to the AD7887’s control register is provided on this input and clocked into the register on the rising edge of SCLK (see the Control Register section). The AD7887 can be operated as a (See Datasheet)", 7 DOUT (hiz) "Data Out. Logic output. The conversion result from the AD7887 is provided on this output as a serial data stream. The bits are clocked out on the falling edge of the SCLK input. The data stream consists of four leading zeros (See Datasheet)", 8 SCLK (in) "Serial Clock. Logic input. SCLK provides the serial clock for accessing data from the part and writing serial data to the control register. This clock input is also used as the clock source for the AD7887’s conversion (See Datasheet)"

## AD7887BR
designator U?
Dual 12-Bit Analog-to-Digital Converter with Serial, SPI Interface, Micropower, 2.7 V to 5.25 V, 125KSPS, -40 to +125 degC, R-8, Tube; Part Number: AD7887; Manufacturer: Analog Devices; Resolution (Bits): 12; Channels: 2; Throughput Rate (SPS): 125K; Interface: Ser, SPI; Automotive Qualified: Yes; DatasheetVersion: Rev.D; PackageVersion: 060506-A; PackageReference: R-8; PackageDescription: 8-Lead Standard Small Outline Package [SOIC_N] Narrow Body; RoHS: N; Packing: Tube; Mounting Technology: Surface Mount; Code_JEDEC: MS-012-AA; Code_IPC: SOIC127P600-8; ComponentLink1Description: Manufacturer URL; ComponentLink1URL: http://www.analog.com/en/index.html; ComponentLink2Description: Datasheet; ComponentLink2URL: http://www.analog.com/static/imported-files/data_sheets/AD7887.pdf; ComponentLink3Description: Package Specification; ComponentLink3URL: http://www.analog.com/static/imported-files/packages/PKG_PDF/SOIC_Narrow%20(R)/R_8.pdf; ComponentLink4Description: Product URL; ComponentLink4URL: http://www.analog.com/en/analog-to-digital-converters/ad-converters/ad7887/products/product.html
footprint R-8_N (SOIC, 8-Leads, Body 4.9x3.9mm, Pitch 1.27mm, IPC Medium Density)
footprint R-8_L (SOIC, 8-Leads, Body 4.9x3.9mm, Pitch 1.27mm, IPC High Density)
footprint R-8_M (SOIC, 8-Leads, Body 4.9x3.9mm, Pitch 1.27mm, IPC Low Density)
pins: 1 ~{CS} (in) "Chip Select. Active low logic input. This input provides the dual function of initiating conversions on the AD7887 and also frames the serial data transfer. When the AD7887 operates in its default mode, the C\S\ pin also (See Datasheet)", 2 VDD (power) "Power Supply Input. The VDD range for the AD7887 is from 2.7 V to 5.25 V. When the AD7887 is configured for two-channel operation, this pin also provides the reference source for the part.", 3 GND (power) "Ground Pin. This pin is the ground reference point for all circuitry on the AD7887. In systems with separate AGND and DGND planes, these planes should be tied together as close as possible to this GND pin. Where this is not (See Datasheet)", 4 AIN1/VREF (in) "Analog Input 1/Voltage Reference Input. In single-channel mode, this pin becomes the reference input/output. In this case, the user can either access the internal 2.5 V reference or overdrive the internal reference with the (See Datasheet)", 5 AIN0 (in) "Analog Input 0. In single-channel mode, this is the analog input and the input voltage range is 0 to VREF. In dual-channel mode, it has an analog input range of 0 to VDD.", 6 DIN (in) "Data In. Logic Input. Data to be written to the AD7887’s control register is provided on this input and clocked into the register on the rising edge of SCLK (see the Control Register section). The AD7887 can be operated as a (See Datasheet)", 7 DOUT (hiz) "Data Out. Logic output. The conversion result from the AD7887 is provided on this output as a serial data stream. The bits are clocked out on the falling edge of the SCLK input. The data stream consists of four leading zeros (See Datasheet)", 8 SCLK (in) "Serial Clock. Logic input. SCLK provides the serial clock for accessing data from the part and writing serial data to the control register. This clock input is also used as the clock source for the AD7887’s conversion (See Datasheet)"

## AD7887BR-REEL
designator U?
Dual 12-Bit Analog-to-Digital Converter with Serial, SPI Interface, Micropower, 2.7 V to 5.25 V, 125KSPS, -40 to +125 degC, R-8, Reel; Part Number: AD7887; Manufacturer: Analog Devices; Resolution (Bits): 12; Channels: 2; Throughput Rate (SPS): 125K; Interface: Ser, SPI; Automotive Qualified: Yes; DatasheetVersion: Rev.D; PackageVersion: 060506-A; PackageReference: R-8; PackageDescription: 8-Lead Standard Small Outline Package [SOIC_N] Narrow Body; RoHS: N; Packing: Reel; Mounting Technology: Surface Mount; Code_JEDEC: MS-012-AA; Code_IPC: SOIC127P600-8; ComponentLink1Description: Manufacturer URL; ComponentLink1URL: http://www.analog.com/en/index.html; ComponentLink2Description: Datasheet; ComponentLink2URL: http://www.analog.com/static/imported-files/data_sheets/AD7887.pdf; ComponentLink3Description: Package Specification; ComponentLink3URL: http://www.analog.com/static/imported-files/packages/PKG_PDF/SOIC_Narrow%20(R)/R_8.pdf; ComponentLink4Description: Product URL; ComponentLink4URL: http://www.analog.com/en/analog-to-digital-converters/ad-converters/ad7887/products/product.html
footprint R-8_N (SOIC, 8-Leads, Body 4.9x3.9mm, Pitch 1.27mm, IPC Medium Density)
footprint R-8_L (SOIC, 8-Leads, Body 4.9x3.9mm, Pitch 1.27mm, IPC High Density)
footprint R-8_M (SOIC, 8-Leads, Body 4.9x3.9mm, Pitch 1.27mm, IPC Low Density)
pins: 1 ~{CS} (in) "Chip Select. Active low logic input. This input provides the dual function of initiating conversions on the AD7887 and also frames the serial data transfer. When the AD7887 operates in its default mode, the C\S\ pin also (See Datasheet)", 2 VDD (power) "Power Supply Input. The VDD range for the AD7887 is from 2.7 V to 5.25 V. When the AD7887 is configured for two-channel operation, this pin also provides the reference source for the part.", 3 GND (power) "Ground Pin. This pin is the ground reference point for all circuitry on the AD7887. In systems with separate AGND and DGND planes, these planes should be tied together as close as possible to this GND pin. Where this is not (See Datasheet)", 4 AIN1/VREF (in) "Analog Input 1/Voltage Reference Input. In single-channel mode, this pin becomes the reference input/output. In this case, the user can either access the internal 2.5 V reference or overdrive the internal reference with the (See Datasheet)", 5 AIN0 (in) "Analog Input 0. In single-channel mode, this is the analog input and the input voltage range is 0 to VREF. In dual-channel mode, it has an analog input range of 0 to VDD.", 6 DIN (in) "Data In. Logic Input. Data to be written to the AD7887’s control register is provided on this input and clocked into the register on the rising edge of SCLK (see the Control Register section). The AD7887 can be operated as a (See Datasheet)", 7 DOUT (hiz) "Data Out. Logic output. The conversion result from the AD7887 is provided on this output as a serial data stream. The bits are clocked out on the falling edge of the SCLK input. The data stream consists of four leading zeros (See Datasheet)", 8 SCLK (in) "Serial Clock. Logic input. SCLK provides the serial clock for accessing data from the part and writing serial data to the control register. This clock input is also used as the clock source for the AD7887’s conversion (See Datasheet)"